# EAGLE library part MEGA8L_DEV (library mega8)
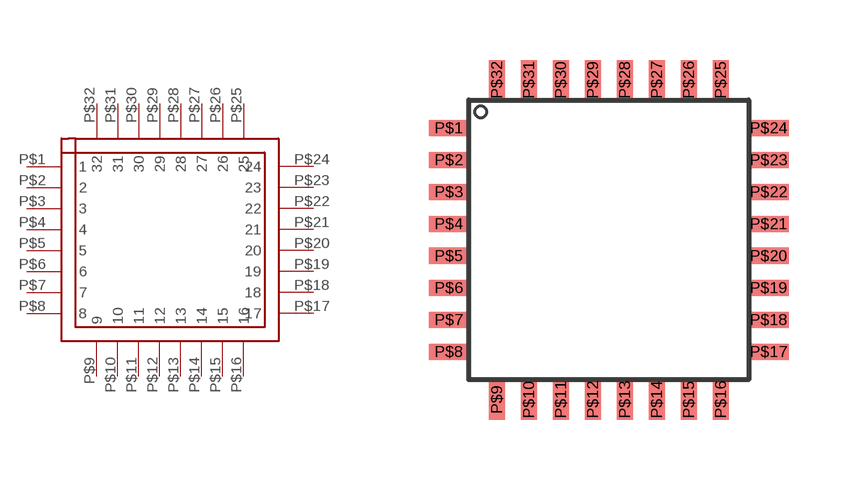
[diagram p0: symbol with the pads of MEGA-FP; footprint MEGA-FP]

Designator prefix -

## MEGA8L_DEV  [MEGA-FP]
P$1  1
P$2  2
P$3  3
P$4  4
P$5  5
P$6  6
P$7  7
P$8  8
P$9  9
P$10  10
P$11  11
P$12  12
P$13  13
P$14  14
P$15  15
P$16  16
P$17  17
P$18  18
P$19  19
P$20  20
P$21  21
P$22  22
P$23  23
P$24  24
P$25  25
P$26  26
P$27  27
P$28  28
P$29  29
P$30  30
P$31  31
P$32  32

## Footprint MEGA-FP (pad centres in mm)
smd 1 x 0.4: P$1 -3.2,5.3; P$2 -3.2,4.5; P$3 -3.2,3.7; P$4 -3.2,2.9; P$5 -3.2,2.1; P$6 -3.2,1.3; P$7 -3.2,0.5; P$8 -3.2,-0.3; P$17 4.8,-0.3; P$18 4.8,0.5; P$19 4.8,1.3; P$20 4.8,2.1; P$21 4.8,2.9; P$22 4.8,3.7; P$23 4.8,4.5; P$24 4.8,5.3
smd 0.4 x 1: P$9 -2,-1.5; P$10 -1.2,-1.5; P$11 -0.4,-1.5; P$12 0.4,-1.5; P$13 1.2,-1.5; P$14 2,-1.5; P$15 2.8,-1.5; P$16 3.6,-1.5; P$25 3.6,6.5; P$26 2.8,6.5; P$27 2,6.5; P$28 1.2,6.5; P$29 0.4,6.5; P$30 -0.4,6.5; P$31 -1.2,6.5; P$32 -2,6.5